# Altium schematic symbol library AP64501SP-13.SchLib: 1 symbol
Pins are listed as number, name and electrical type; pins without a type are passive.

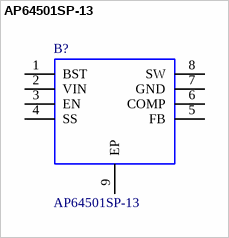
[diagram p0: symbol AP64501SP-13]

## AP64501SP-13
designator B?
Conv DC-DC 3.8V to 40V Synchronous Step Down Single-Out 0.8V to 39V 5A 8-Pin SO EP T/R; Manufacturer_Name: Diodes Incorporated; Geometry.Height: 1.63mm; Manufacturer_Part_Number: AP64501SP-13; Mouser Part Number: 621-AP64501SP-13; Mouser Price/Stock: https://www.mouser.co.uk/ProductDetail/Diodes-Incorporated/AP64501SP-13?qs=P1JMDcb91o7FS0GU%252BW7TIQ%3D%3D; Arrow Part Number: AP64501SP-13; Arrow Price/Stock: https://www.arrow.com/en/products/ap64501sp-13/diodes-incorporated?utm_currency=USD&region=nac; Datasheet Link: https://www.diodes.com//assets/Datasheets/AP64501.pdf
footprint SOIC127P600X163-9N
pins: 1 BST, 2 VIN, 3 EN, 4 SS, 5 FB, 6 COMP, 7 GND, 8 SW, 9 EP